# EAGLE library part 750817930 (library WE-OLTI)
WE-OLTI Offline Flyback Transformers Characteristics Nominal input voltage: 85–265 VAC (120–375 VDC) Small size Low leakage inductance Multiple-output options Operating temperature: −40 °C to +125 °C Isolation Voltage: 2 kVAC to 5 kVAC Options for fixed frequency or quasi-resonant mode operation Most products meet reinforced insulation Applications Industrial controls USB chargers Utility metering devices Process controls Factory automation Security systems Garage door opener auxiliary supplies Home appliances Especially designed for several ICs from Texas Instruments Details see: www.we-online.com/en/components/products/WE-OLTI Created by Ella 2025-02-06 2025 (C) Würth Elektronik
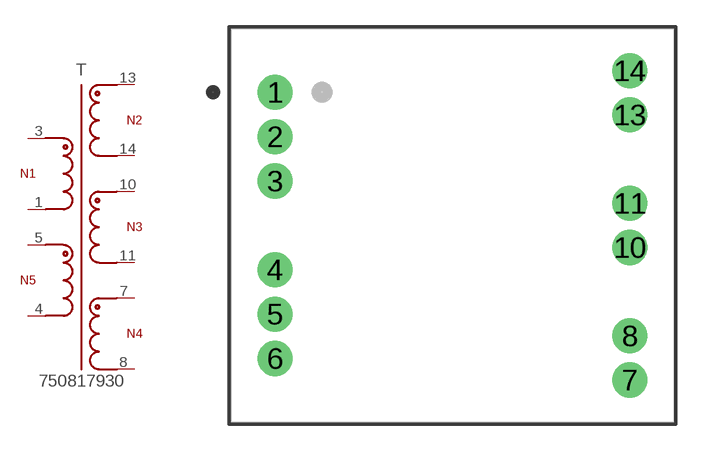
[diagram p19: symbol with the pads of WE-OLTI_EE20/10/6_L22.2W25H16.5_12PINS; footprint WE-OLTI_EE20/10/6_L22.2W25H16.5_12PINS]

Designator prefix T

## 750817930 (AUXILIARY_VOLTAGE_1: 18 V; CATEGORY: Transformers; DATASHEET: https://www.we-online.com/redexpert/spec/750817930?ae; HEIGHT: 16 mm; INDUCTANCE: 350 uH; INPUT_VOLTAGE: 71 - 481 V (AC); INSULATION_TEST_VOLTAGE: 3000 V (AC); LENGTH: 22.2 mm; MANUFACTURER: Würth Elektronik; MOUNT: THT; MPN: 750817930; OUTPUT_CURRENT_1: 700 mA; OUTPUT_CURRENT_2: 700 mA; OUTPUT_CURRENT_3: 700 mA; OUTPUT_VOLTAGE_1: 12 V; OUTPUT_VOLTAGE_2: 12 V; OUTPUT_VOLTAGE_3: 12 V; SATURATION_CURRENT: 1.8 A; SIZE: EE20/10/6; SWITCHING-FREQUENCY: 100kHz; TURNS_RATIO: 7:1:1:1:1.5; VALUE: 350 uH; WIDTH: 25 mm)  [WE-OLTI_EE20/10/6_L22.2W25H16.5_12PINS]
1  1  pas
3  3  pas
4  4  pas
5  5  pas
7  7  pas
8  8  pas
10  10  pas
11  11  pas
13  13  pas
14  14  pas

## Footprint WE-OLTI_EE20/10/6_L22.2W25H16.5_12PINS (pad centres in mm)
WE-OLTI Offline Flyback Transformers Size:EE20/10/6,THT,12pins LXWXH=22.2X25X16mm Bobbin: 070-5643
drill 1.32: 1 -10,7.5; 2 -10,5; 3 -10,2.5; 4 -10,-2.5; 5 -10,-5; 6 -10,-7.5; 7 10,-8.715; 8 10,-6.225; 10 10,-1.245; 11 10,1.245; 13 10,6.225; 14 10,8.715